# Altium schematic symbol library CN_0.8P-5F.A1.SchLib: 1 symbol
Pins are listed as number, name and electrical type; pins without a type are passive.

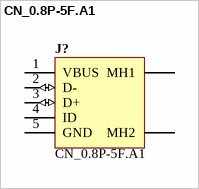
[diagram p0: symbol CN_0.8P-5F.A1]

## CN_0.8P-5F.A1
designator J?
MINI USB 5P
pins: 1 VBUS (power), 2 D- (io), 3 D+ (io), 4 ID, 5 GND (power), MH1, MH2